# EAGLE library part DPDT (library switches)
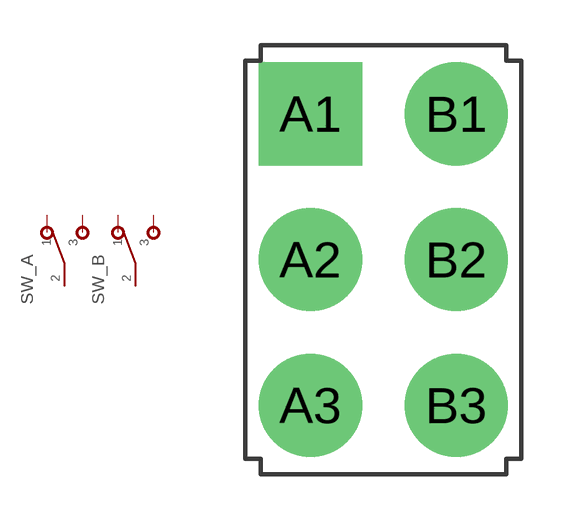
[diagram p9: symbol with the pads of DPDT2_PCB; footprint DPDT2_PCB]

Designator prefix SW; gates _A=SPDT _B=SPDT

## DPDTDPDT_3  [DPDT2_PCB]
A1  _A:1  pas
A2  _A:2  pas
A3  _A:3  pas
B1  _B:1  pas
B2  _B:2  pas
B3  _B:3  pas

## Footprint DPDT2_PCB (pad centres in mm)
drill 2.4 square: A1 -2.413,4.834
drill 2.4: A2 -2.413,0.004; A3 -2.413,-4.826; B1 2.417,4.834; B2 2.417,0.004; B3 2.417,-4.826